# EAGLE library part STP08CP05 (library booz)
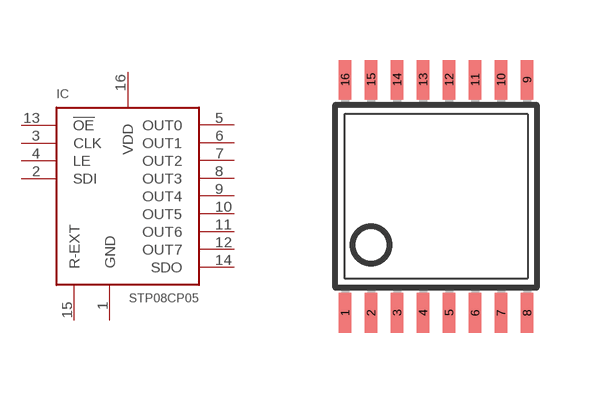
[diagram p13: symbol with the pads of TSSOP16; footprint TSSOP16]

Designator prefix IC

## STP08CP05  [TSSOP16]
1  GND
2  SDI
3  CLK
4  LE
5  OUT0
6  OUT1
7  OUT2
8  OUT3
9  OUT4
10  OUT5
11  OUT6
12  OUT7
13  !OE
14  SDO
15  R-EXT
16  VDD

## Footprint TSSOP16 (pad centres in mm)
Thin Shrink Small Outline Plastic 16 MAX3223-MAX3243.pdf
smd 0.305 x 0.991: 1 -2.275,-2.918; 2 -1.625,-2.918; 3 -0.975,-2.918; 4 -0.325,-2.918; 5 0.325,-2.918; 6 0.975,-2.918; 7 1.625,-2.918; 8 2.275,-2.918; 9 2.275,2.918; 10 1.625,2.918; 11 0.975,2.918; 12 0.325,2.918; 13 -0.325,2.918; 14 -0.975,2.918; 15 -1.625,2.918; 16 -2.275,2.918